# Altium schematic symbol library XilinxJtagHeader7X2.Schlib: 1 symbol
Pins are listed as number, name and electrical type; pins without a type are passive.

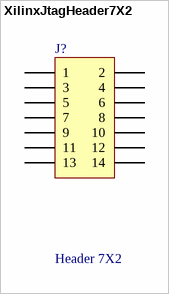
[diagram p0: symbol XilinxJtagHeader7X2]

## XilinxJtagHeader7X2
designator J?, comment Header 7X2
pins: 1, 2, 3, 4, 5, 6, 7, 8, 9, 10, 11, 12, 13, 14